# Altium footprint library Jack_PCB_Lib1.PcbLib: 66 footprints (part 2 of 5)
Each footprint in its own frame and in the unit in brackets; x right, y up, seen from the top. Pads: shape width x height; smd on the part's side, far side on the other; paste and mask are expansions set on the pad; w line width, h text height; cw(c..) or ccw(c..) is an arc to the next point about the centre after c.
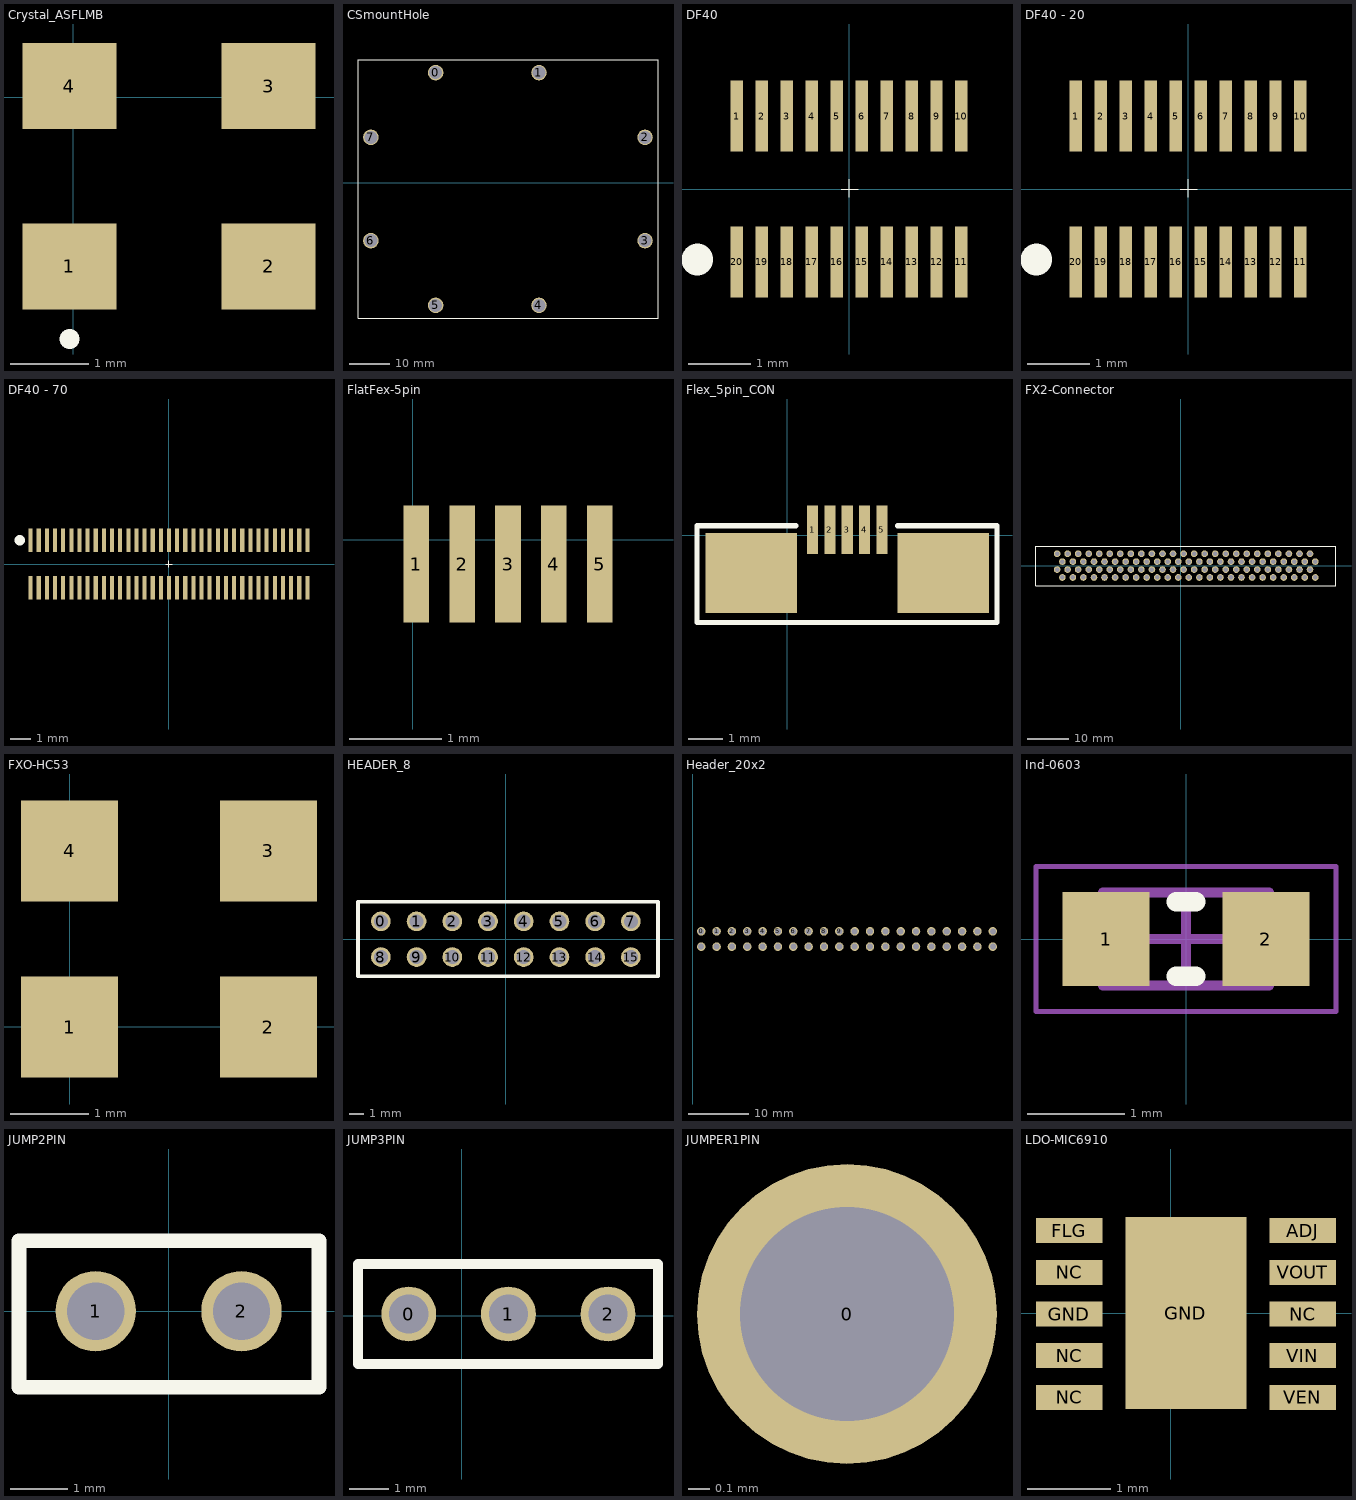
[diagram p1: the footprints below, top view; thin cyan lines are the x and y axes]

## Crystal_ASFLMB [mm]
pads (4):
  rect 1.2x1.1 smd: 1(-0.052,-2.158) 2(2.488,-2.158) 3(2.488,0.143) 4(-0.052,0.143)
Top Overlay:
  lines w0.254: -0.048,-3.083 -0.047,-3.083

## CSmountHole [mm]
pads (8):
  round 3.81 hole 3.175: 0(29.4,27.075) 1(54.8,27.075) 2(80.835,11.2) 3(80.835,-14.2) 4(54.8,-30.075) 5(29.4,-30.075) 6(13.525,-14.2) 7(13.525,11.2)
Top Overlay:
  lines w0.254: 10.35,-33.25 16.45,-33.25 66.175,-33.25 73.775,-33.25 84.025,-33.25 84.025,-23 84.025,19.875 84.025,30.25 73.85,30.25 72.256,30.25 11.719,30.25 10.35,30.25 10.35,29.95 ; 10.35,-33.225 10.35,30.1

## DF40 [mm]
pads (20):
  rect 0.2x1.14 smd mask+0.05: 1(-1.8,1.17) 2(-1.4,1.17) 3(-1,1.17) 4(-0.6,1.17) 5(-0.2,1.17) 6(0.2,1.17) 7(0.6,1.17) 8(1,1.17) 9(1.4,1.17) 10(1.8,1.17) 11(1.8,-1.17) 12(1.4,-1.17) 13(1,-1.17) 14(0.6,-1.17) 15(0.2,-1.17) 16(-0.2,-1.17) 17(-0.6,-1.17) 18(-1,-1.17) 19(-1.4,-1.17) 20(-1.8,-1.17)
Top Overlay:
  lines w0.005: -0.125,0 0.145,0 ; 0,-0.136 0,0.153
  lines w0.508: -2.441,-1.134 -2.435,-1.128

## DF40 - 20 [mm]
pads (20):
  rect 0.2x1.14 smd mask+0.05: 1(-1.8,1.17) 2(-1.4,1.17) 3(-1,1.17) 4(-0.6,1.17) 5(-0.2,1.17) 6(0.2,1.17) 7(0.6,1.17) 8(1,1.17) 9(1.4,1.17) 10(1.8,1.17) 11(1.8,-1.17) 12(1.4,-1.17) 13(1,-1.17) 14(0.6,-1.17) 15(0.2,-1.17) 16(-0.2,-1.17) 17(-0.6,-1.17) 18(-1,-1.17) 19(-1.4,-1.17) 20(-1.8,-1.17)
Top Overlay:
  lines w0.005: -0.125,0 0.145,0 ; 0,-0.136 0,0.153
  lines w0.508: -2.441,-1.134 -2.435,-1.128

## DF40 - 70 [mm]
pads (70):
  rect 0.2x1.14 smd mask+0.05: 1(-6.8,1.17) 2(-6.4,1.17) 3(-6,1.17) 4(-5.6,1.17) 5(-5.2,1.17) 6(-4.8,1.17) 7(-4.4,1.17) 8(-4,1.17) 9(-3.6,1.17) 10(-3.2,1.17) 11(-2.8,1.17) 12(-2.4,1.17) 13(-2,1.17) 14(-1.6,1.17) 15(-1.2,1.17) 16(-0.8,1.17) 17(-0.4,1.17) 18(0,1.17) 19(0.4,1.17) 20(0.8,1.17) 21(1.2,1.17) 22(1.6,1.17) 23(2,1.17) 24(2.4,1.17) 25(2.8,1.17) 26(3.2,1.17) 27(3.6,1.17) 28(4,1.17) 29(4.4,1.17) 30(4.8,1.17) 31(5.2,1.17) 32(5.6,1.17) 33(6,1.17) 34(6.4,1.17) 35(6.8,1.17) 36(6.8,-1.17) 37(6.4,-1.17) 38(6,-1.17) 39(5.6,-1.17) 40(5.2,-1.17) 41(4.8,-1.17) 42(4.4,-1.17) 43(4,-1.17) 44(3.6,-1.17) 45(3.2,-1.17) 46(2.8,-1.17) 47(2.4,-1.17) 48(2,-1.17) 49(1.6,-1.17) 50(1.2,-1.17) 51(0.8,-1.17) 52(0.4,-1.17) 53(0,-1.17) 54(-0.4,-1.17) 55(-0.8,-1.17) 56(-1.2,-1.17) 57(-1.6,-1.17) 58(-2,-1.17) 59(-2.4,-1.17) 60(-2.8,-1.17) 61(-3.2,-1.17) 62(-3.6,-1.17) 63(-4,-1.17) 64(-4.4,-1.17) 65(-4.8,-1.17) 66(-5.2,-1.17) 67(-5.6,-1.17) 68(-6,-1.17) 69(-6.4,-1.17) 70(-6.8,-1.17)
Top Overlay:
  lines w0.005: -0.152,0 0.152,0 ; 0,-0.152 0,0.152
  lines w0.508: -7.346,1.163 -7.341,1.168

## FlatFex-5pin [mil]
pads (5):
  rect 11x50 smd mask+3: 1(1.56,-10.31) 2(21.24,-10.31) 3(40.93,-10.31) 4(60.61,-10.31) 5(80.3,-10.31)

## Flex_5pin_CON [mm]
pads (7):
  rect 0.32x1.4 smd mask+0.051: 1(0.733,0.161) 2(1.233,0.161) 3(1.733,0.161) 4(2.233,0.161) 5(2.733,0.161)
  rect 2.65x2.3 smd mask+0.051: ""(-1.043,-1.089) ""(4.507,-1.089)
Top Overlay:
  lines w0.15: 0.255,0.278 -2.607,0.278 -2.607,-2.517 6.06,-2.517 6.06,0.278 3.19,0.278

## FX2-Connector [mm]
pads (100):
  round 1.6 hole 1.1: A1(-29.845,-0.952) A2(-28.575,-2.857) A3(-27.305,-0.952) A4(-26.035,-2.857) A5(-24.765,-0.952) A6(-23.495,-2.857) A7(-22.225,-0.952) A8(-20.955,-2.857) A9(-19.685,-0.952) A10(-18.415,-2.857) A11(-17.145,-0.952) A12(-15.875,-2.857) A13(-14.605,-0.952) A14(-13.335,-2.857) A15(-12.065,-0.952) A16(-10.795,-2.857) A17(-9.525,-0.952) A18(-8.255,-2.857) A19(-6.985,-0.952) A20(-5.715,-2.857) A21(-4.445,-0.952) A22(-3.175,-2.857) A23(-1.905,-0.952) A24(-0.635,-2.857) A25(0.635,-0.952) A26(1.905,-2.857) A27(3.175,-0.952) A28(4.445,-2.857) A29(5.715,-0.952) A30(6.985,-2.857) A31(8.255,-0.952) A32(9.525,-2.857) A33(10.795,-0.952) A34(12.065,-2.857) A35(13.335,-0.952) A36(14.605,-2.857) A37(15.875,-0.952) A38(17.145,-2.857) A39(18.415,-0.952) A40(19.685,-2.857) A41(20.955,-0.952) A42(22.225,-2.857) A43(23.495,-0.952) A44(24.765,-2.857) A45(26.035,-0.952) A46(27.305,-2.857) A47(28.575,-0.952) A48(29.845,-2.857) A49(31.115,-0.952) A50(32.385,-2.857) B1(-29.845,2.858) B2(-28.575,0.953) B3(-27.305,2.858) B4(-26.035,0.953) B5(-24.765,2.858) B6(-23.495,0.953) B7(-22.225,2.858) B8(-20.955,0.953) B9(-19.685,2.858) B10(-18.415,0.953) B11(-17.145,2.858) B12(-15.875,0.953) B13(-14.605,2.858) B14(-13.335,0.953) B15(-12.065,2.858) B16(-10.795,0.953) B17(-9.525,2.858) B18(-8.255,0.953) B19(-6.985,2.858) B20(-5.715,0.953) B21(-4.445,2.858) B22(-3.175,0.953) B23(-1.905,2.858) B24(-0.635,0.953) B25(0.635,2.858) B26(1.905,0.953) B27(3.175,2.858) B28(4.445,0.953) B29(5.715,2.858) B30(6.985,0.953) B31(8.255,2.858) B32(9.525,0.953) B33(10.795,2.858) B34(12.065,0.953) B35(13.335,2.858) B36(14.605,0.953) B37(15.875,2.858) B38(17.145,0.953) B39(18.415,2.858) B40(19.685,0.953) B41(20.955,2.858) B42(22.225,0.953) B43(23.495,2.858) B44(24.765,0.953) B45(26.035,2.858) B46(27.305,0.953) B47(28.575,2.858) B48(29.845,0.953) B49(31.115,2.858) B50(32.385,0.953)
Top Overlay:
  region: 26.15,5.65
  region: 26.15,5.65
  region: 26.15,5.65
  region: 26.15,5.65
  region: 26.15,5.65
  region: 26.15,5.65
  lines w0.254: -34.925,-4.875 37.375,-4.875 37.375,4.725 -34.925,4.725 -34.925,-4.875

## FXO-HC53 [mm]
pads (4):
  rect 1.24x1.29 smd: 1(0,-0.005) 2(2.54,-0.005) 3(2.54,2.245) 4(0,2.245)

## HEADER_8 [mm]
pads (16):
  round 1.4 hole 1: 0(-8.89,1.27) 1(-6.35,1.27) 2(-3.81,1.27) 3(-1.27,1.27) 4(1.27,1.27) 5(3.81,1.27) 6(6.35,1.27) 7(8.89,1.27) 8(-8.89,-1.27) 9(-6.35,-1.27) 10(-3.81,-1.27) 11(-1.27,-1.27) 12(1.27,-1.27) 13(3.81,-1.27) 14(6.35,-1.27) 15(8.89,-1.27)
Top Overlay:
  lines w0.254: -10.516,-2.642 10.82,-2.642 10.82,2.667 -10.033,2.667 -10.516,2.667 -10.516,-2.642

## Header_20x2 [mm]
pads (40):
  round 1.4 hole 1: 0(1.368,-33.215) 1(3.908,-33.215) 2(6.448,-33.215) 3(8.988,-33.215) 4(11.528,-33.215) 5(14.068,-33.215) 6(16.608,-33.215) 7(19.148,-33.215) 8(21.688,-33.215) 9(24.228,-33.215) 10(26.768,-33.215) 11(29.308,-33.215) 12(31.848,-33.215) 13(34.388,-33.215) 14(36.928,-33.215) 15(39.468,-33.215) 16(42.008,-33.215) 17(44.548,-33.215) 18(47.088,-33.215) 19(49.628,-33.215) 20(1.368,-35.755) 21(3.908,-35.755) 22(6.448,-35.755) 23(8.988,-35.755) 24(11.528,-35.755) 25(14.068,-35.755) 26(16.608,-35.755) 27(19.148,-35.755) 28(21.688,-35.755) 29(24.228,-35.755) 30(26.768,-35.755) 31(29.308,-35.755) 32(31.848,-35.755) 33(34.388,-35.755) 34(36.928,-35.755) 35(39.468,-35.755) 36(42.008,-35.755) 37(44.548,-35.755) 38(47.088,-35.755) 39(49.628,-35.755)

## Ind-0603 [mm] "inductor 0603"
height 0.76
pads (2):
  rect 0.9x0.97 smd: 1(-0.825,0) 2(0.825,0)
Top Overlay:
  lines w0.2: -0.1,-0.385 0.1,-0.385 ; -0.1,0.385 0.1,0.385
Mechanical 13:
  lines w0.1: -0.86,-0.48 0.86,-0.48 0.86,0.48 -0.86,0.48 -0.86,-0.48
Mechanical 15:
  lines w0.05: -1.55,-0.75 1.55,-0.75 1.55,0.75 -1.55,0.75 -1.55,-0.75
  lines w0.1: -0.48,0 0.48,0 ; 0,-0.48 0,0.48
3D body: height 0.76, standoff 0, extent 0.51,-0.48 0.86,0.48
3D body: height 0.76, standoff 0, extent -0.86,-0.48 -0.51,0.48
3D body: height 0.76, standoff 0, extent -0.51,-0.48 0.51,0.48

## JUMP2PIN [mm]
pads (2):
  round 1.4 hole 1: 1(-1.27,0) 2(1.27,0)
Top Overlay:
  lines w0.254: -2.605,-1.325 2.62,-1.325 2.62,1.225 -2.605,1.225 -2.605,-1.325

## JUMP3PIN [mm] "2_54mmX2_54mm"
pads (3):
  round 1.4 hole 1: 0(-1.355,0.05) 1(1.185,0.05) 2(3.725,0.05)
Top Overlay:
  lines w0.254: -2.65,-1.225 -2.65,1.325 5,1.325 5,-1.225 -2.65,-1.225

## JUMPER1PIN [mm]
pads (1):
  round 1.4 hole 1: 0(1.4,1.115)

## LDO-MIC6910 [mm]
pads (11):
  rect 0.8x0.3 smd mask+0.05: ADJ(1.582,0.99) FLG(-1.218,0.99) GND(-1.218,-0.01) NC(-1.218,-1.009) NC(-1.218,-0.51) NC(-1.218,0.49) NC(1.582,-0.01) VEN(1.582,-1.009) VIN(1.582,-0.51) VOUT(1.582,0.49)
  rect 1.45x2.3 smd mask+0.05: GND(0.182,0.001)